# EAGLE library part MQ_135_A (library MQ_135_A)
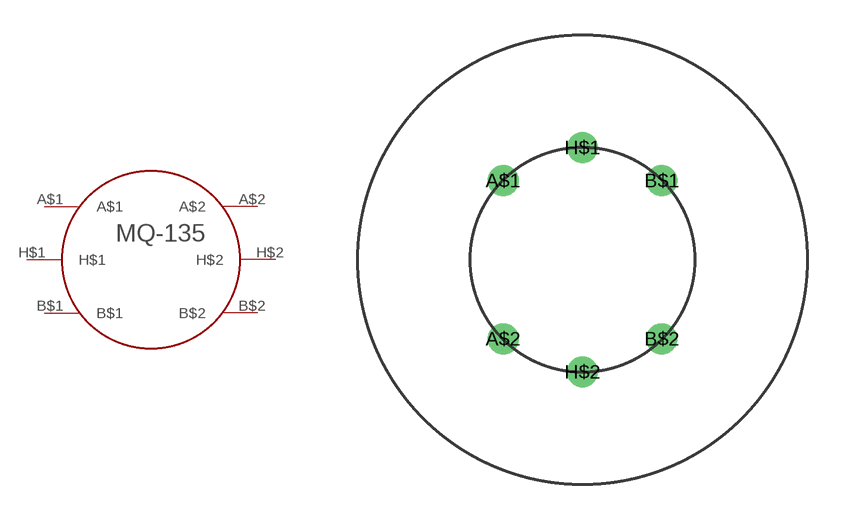
[diagram p0: symbol with the pads of MQ-135; footprint MQ-135]

Designator prefix -

## MQ_135_A  [MQ-135]
A$1  A$1
A$2  A$2
B$1  B$1
B$2  B$2
H$1  H$1
H$2  H$2

## Footprint MQ-135 (pad centres in mm)
drill 0.8: A$1 -3.36,3.35; A$2 -3.36,-3.35; B$1 3.36,3.35; B$2 3.36,-3.35; H$1 0,4.75; H$2 0,-4.75